# EAGLE library part DIGCOMS (library seds)
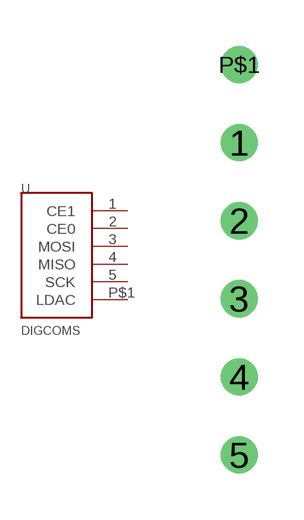
[diagram p2: symbol with the pads of 6PINHEADER; footprint 6PINHEADER]

Designator prefix -

## DIGCOMS  [6PINHEADER]
1  CE1
2  CE0
3  MOSI
4  MISO
5  SCK
P$1  LDAC

## Footprint 6PINHEADER (pad centres in mm)
drill 0.7: 1 0,5.08; 2 0,2.54; 3 0,0; 4 0,-2.54; 5 0,-5.08; P$1 0,7.62